# Altium schematic symbol library INFINITY.Microchip.SchLib: 15 symbols
Pins are listed as number, name and electrical type; pins without a type are passive.

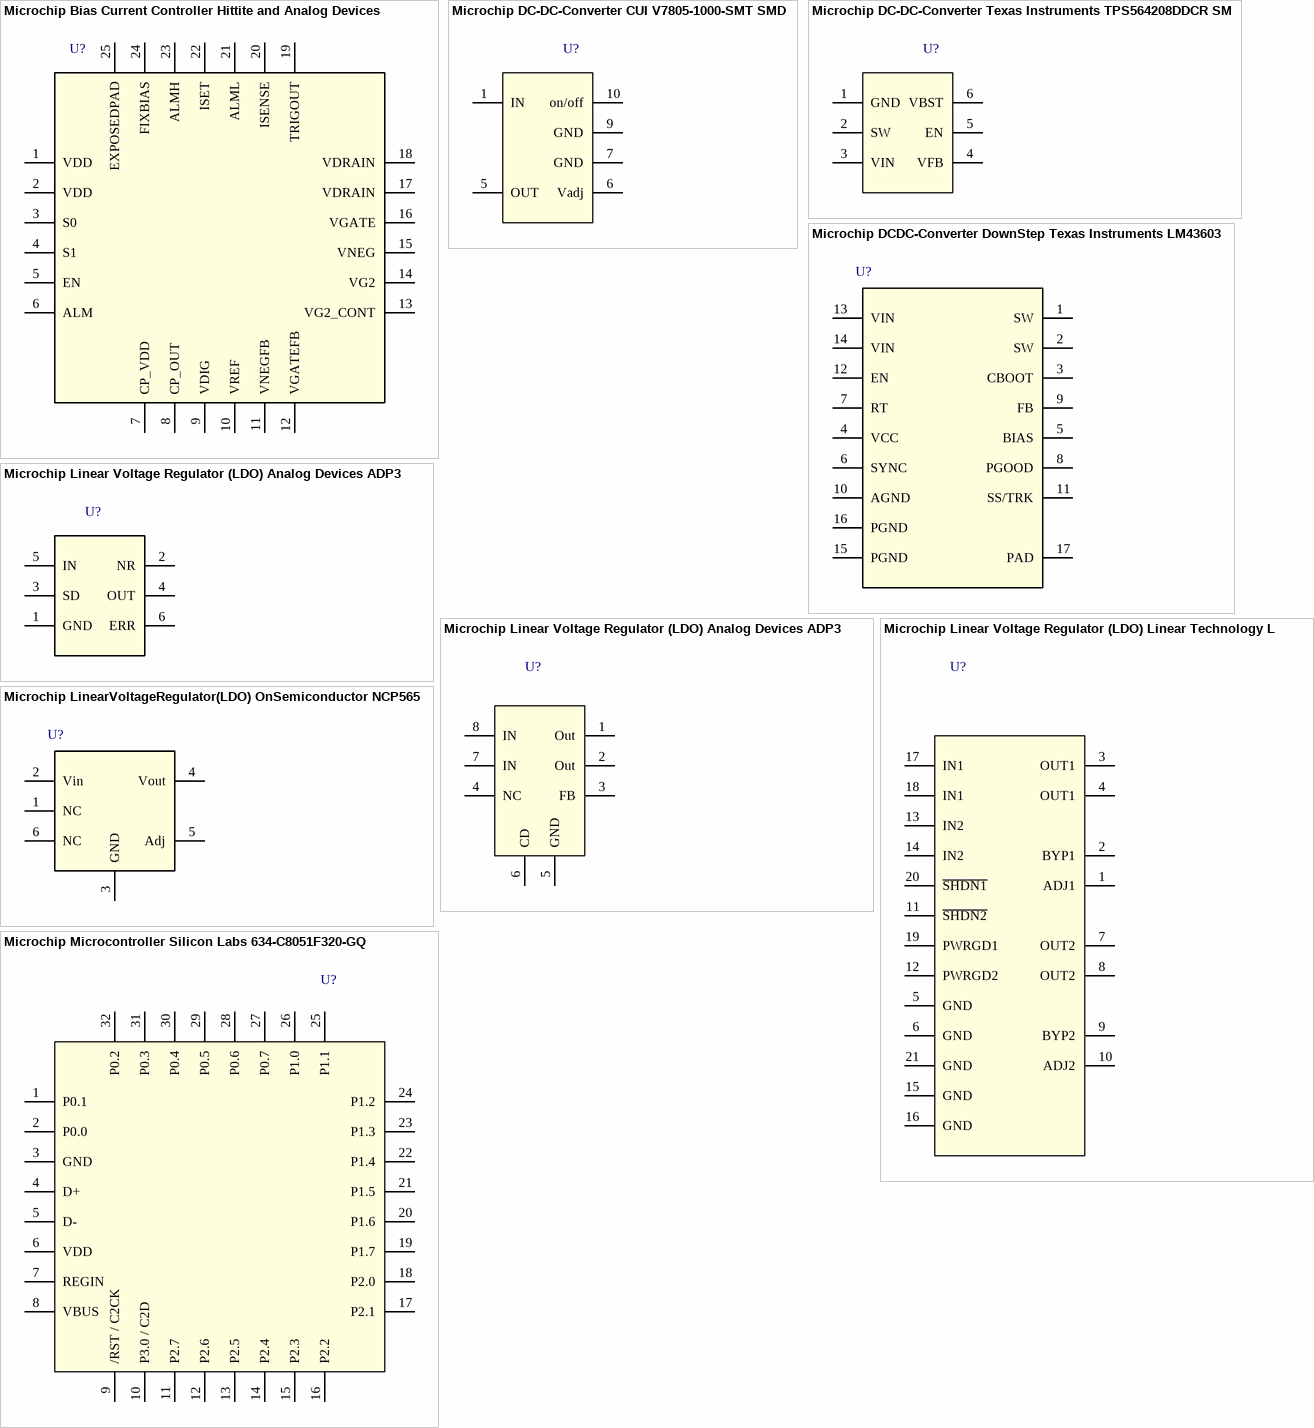
[diagram p0: symbols Microchip Bias Current Controller Hittite and Analog Devices HMC980LP4E SMT QFN-24 16.5V 1.6A to Microchip Microcontroller Silicon Labs 634-C8051F320-GQ]

## Microchip Bias Current Controller Hittite and Analog Devices HMC980LP4E SMT QFN-24 16.5V 1.6A
designator U?
pins: 1 VDD, 2 VDD, 3 S0, 4 S1, 5 EN, 6 ALM, 7 CP_VDD, 8 CP_OUT, 9 VDIG, 10 VREF, 11 VNEGFB, 12 VGATEFB, 13 VG2_CONT, 14 VG2, 15 VNEG, 16 VGATE, 17 VDRAIN, 18 VDRAIN, 19 TRIGOUT, 20 ISENSE, 21 ALML, 22 ISET, 23 ALMH, 24 FIXBIAS, 25 EXPOSEDPAD

## Microchip DC-DC-Converter CUI V7805-1000-SMT SMD
designator U?  (value not drawn)
NON-ISOLATED SWITCHING REGULATOR; Part Number Factory: V7805-1000-SMT-TR; Resume: Microchip DCDC-Converter CUI V7805-1000-SMT SMD; Output Current Range: to 1A; Pins count: 6; Row count: 2; Part Number Mouser#com: 490-V78051000-SMT-TR; Category: Microchip; Value: -; Precision: -; Temperature range: -40 +85 Celsium; Resistance: -; Inductance: -; Impedance: -; Capacitance: -; Unity: -; Frequency: -; Input Current Range: -; Power Dissipation: -; Gender: -; Dielectric material: -; Pitch: -; Datasheet link: http://www.mouser.com/ds/2/670/v78-1000-smt-1152799.pdf; Replacement: -; Series: -; Commentary: -
pins: 1 IN, 5 OUT, 6 Vadj, 7 GND, 9 GND, 10 on/off

## Microchip DC-DC-Converter Texas Instruments TPS564208DDCR SMD SOT-23-6 RJ-6 DDC 1.6x2.9mm
designator U?
Part Number Factory: V7805-1000-SMT-TR; Resume: Microchip DCDC-Converter CUI V7805-1000-SMT SMD; Output Current Range: to 1A; Pins count: 6; Row count: 2; Part Number Mouser#com: 490-V78051000-SMT-TR; Category: Microchip; Value: -; Precision: -; Temperature range: -40 +85 Celsium; Resistance: -; Inductance: -; Impedance: -; Capacitance: -; Unity: -; Frequency: -; Input Current Range: -; Power Dissipation: -; Gender: -; Dielectric material: -; Pitch: -; Datasheet link: http://www.mouser.com/ds/2/670/v78-1000-smt-1152799.pdf; Replacement: -; Series: -; Commentary: -
pins: 1 GND, 2 SW, 3 VIN, 4 VFB, 5 EN, 6 VBST

## Microchip DCDC-Converter DownStep Texas Instruments LM43603
designator U?  (value not drawn)
Imported
pins: 1 SW, 2 SW, 3 CBOOT, 4 VCC, 5 BIAS, 6 SYNC, 7 RT, 8 PGOOD, 9 FB, 10 AGND, 11 SS/TRK, 12 EN, 13 VIN, 14 VIN, 15 PGND, 16 PGND, 17 PAD

## Microchip Linear Voltage Regulator (LDO) Analog Devices ADP3300ARTZ-3.3RL7 SOT-23-6
designator U?
pins: 1 GND, 2 NR, 3 SD, 4 OUT, 5 IN, 6 ERR

## Microchip Linear Voltage Regulator (LDO) Analog Devices ADP3334ARMZ-REEL7 MSOP-8 RM-8
designator U?
-
pins: 1 Out, 2 Out, 3 FB, 4 NC, 5 GND, 6 CD, 7 IN, 8 IN

## Microchip Linear Voltage Regulator (LDO) Linear Technology LT3030 TSSOP-20
designator U?
pins: 1 ADJ1, 2 BYP1, 3 OUT1, 4 OUT1, 5 GND, 6 GND, 7 OUT2, 8 OUT2, 9 BYP2, 10 ADJ2, 11 ~{SHDN2}, 12 PWRGD2, 13 IN2, 14 IN2, 15 GND, 16 GND, 17 IN1, 18 IN1, 19 PWRGD1, 20 ~{SHDN1}, 21 GND

## Microchip LinearVoltageRegulator(LDO) OnSemiconductor NCP565 SMT
designator U?  (value not drawn)
pins: 1 NC, 2 Vin, 3 GND, 4 Vout, 5 Adj, 6 NC

## Microchip Microcontroller Silicon Labs 634-C8051F320-GQ
designator U?
pins: 1 P0.1, 2 P0.0, 3 GND, 4 D+, 5 D-, 6 VDD, 7 REGIN, 8 VBUS, 9 /RST / C2CK, 10 P3.0 / C2D, 11 P2.7, 12 P2.6, 13 P2.5, 14 P2.4, 15 P2.3, 16 P2.2, 17 P2.1, 18 P2.0, 19 P1.7, 20 P1.6, 21 P1.5, 22 P1.4, 23 P1.3, 24 P1.2, 25 P1.1, 26 P1.0, 27 P0.7, 28 P0.6, 29 P0.5, 30 P0.4, 31 P0.3, 32 P0.2

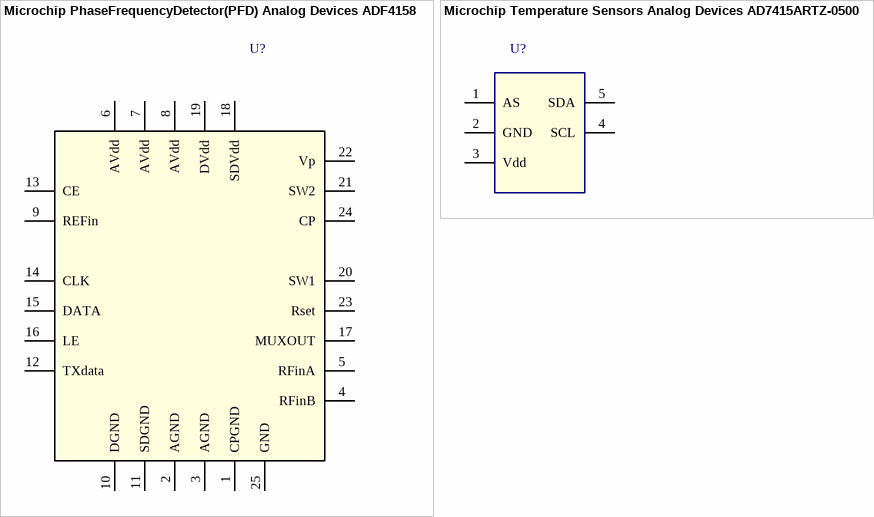
[diagram p1: symbols Microchip PhaseFrequencyDetector(PFD) Analog Devices ADF4158 LFCSP-24 CP-24-8 to Microchip Temperature Sensors Analog Devices AD7415ARTZ-0500RL7]

## Microchip PhaseFrequencyDetector(PFD) Analog Devices ADF4158 LFCSP-24 CP-24-8
designator U?
pins: 1 CPGND, 2 AGND, 3 AGND, 4 RFinB, 5 RFinA, 6 AVdd, 7 AVdd, 8 AVdd, 9 REFin, 10 DGND, 11 SDGND, 12 TXdata, 13 CE, 14 CLK, 15 DATA, 16 LE, 17 MUXOUT, 18 SDVdd, 19 DVdd, 20 SW1, 21 SW2, 22 Vp, 23 Rset, 24 CP, 25 GND

## Microchip Temperature Sensors Analog Devices AD7415ARTZ-0500RL7
designator U?
pins: 1 AS, 2 GND, 3 Vdd, 4 SCL, 5 SDA

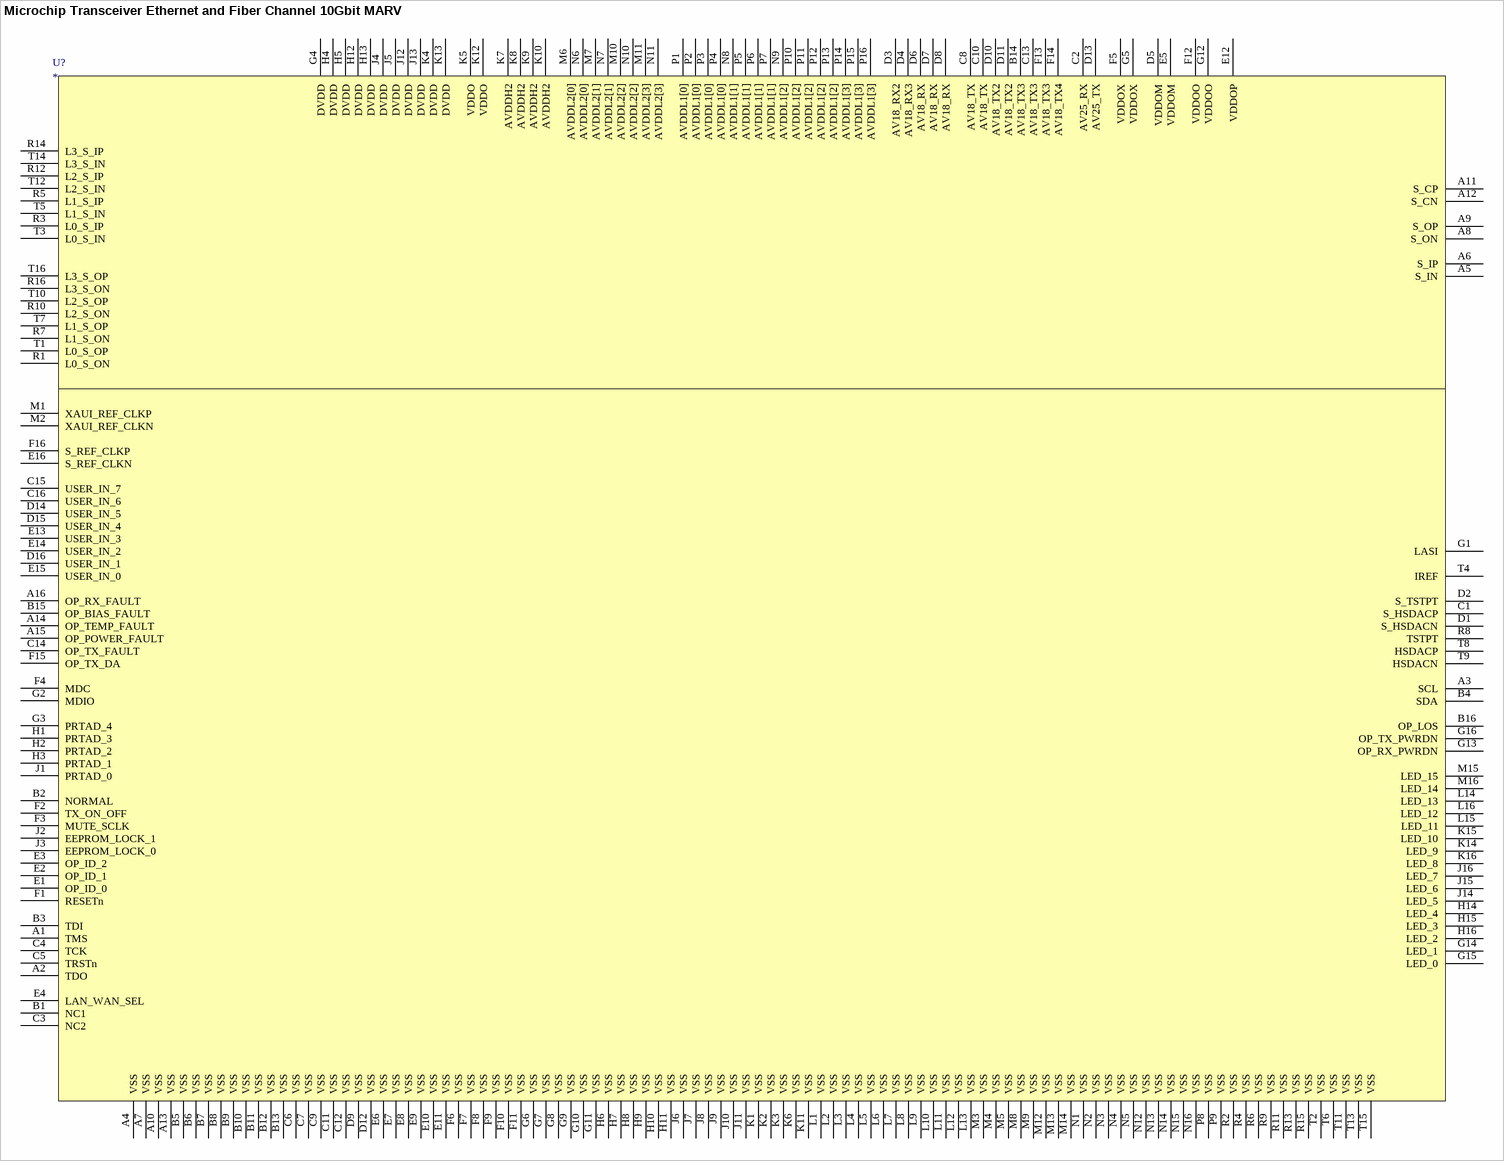
[diagram p2: symbol Microchip Transceiver Ethernet and Fiber Channel 10Gbit MARVELL 88X2011 SMT TFBGA-256]

## Microchip Transceiver Ethernet and Fiber Channel 10Gbit MARVELL 88X2011 SMT TFBGA-256
designator U?
pins: A1 TMS, A2 TDO, A3 SCL, A4 VSS, A5 S_IN, A6 S_IP, A7 VSS, A8 S_ON, A9 S_OP, A10 VSS, A11 S_CP, A12 S_CN, A13 VSS, A14 OP_TEMP_FAULT, A15 OP_POWER_FAULT, A16 OP_RX_FAULT, B1 NC1, B2 NORMAL, B3 TDI, B4 SDA, B5 VSS, B6 VSS, B7 VSS, B8 VSS, B9 VSS, B10 VSS, B11 VSS, B12 VSS, B13 VSS, B14 AV18_TX3, B15 OP_BIAS_FAULT, B16 OP_LOS, C1 S_HSDACP, C2 AV25_RX, C3 NC2, C4 TCK, C5 TRSTn, C6 VSS, C7 VSS, C8 AV18_TX, C9 VSS, C10 AV18_TX, C11 VSS, C12 VSS, C13 AV18_TX3, C14 OP_TX_FAULT, C15 USER_IN_7, C16 USER_IN_6, D1 S_HSDACN, D2 S_TSTPT, D3 AV18_RX2, D4 AV18_RX3, D5 VDDOM, D6 AV18_RX, D7 AV18_RX, D8 AV18_RX, D9 VSS, D10 AV18_TX2, D11 AV18_TX2, D12 VSS, D13 AV25_TX, D14 USER_IN_5, D15 USER_IN_4, D16 USER_IN_1, E1 OP_ID_0, E2 OP_ID_1, E3 OP_ID_2, E4 LAN_WAN_SEL, E5 VDDOM, E6 VSS, E7 VSS, E8 VSS, E9 VSS, E10 VSS, E11 VSS, E12 VDDOP, E13 USER_IN_3, E14 USER_IN_2, E15 USER_IN_0, E16 S_REF_CLKN, F1 RESETn, F2 TX_ON_OFF, F3 MUTE_SCLK, F4 MDC, F5 VDDOX, F6 VSS, F7 VSS, F8 VSS, F9 VSS, F10 VSS, F11 VSS, F12 VDDOO, F13 AV18_TX3, F14 AV18_TX4, F15 OP_TX_DA, F16 S_REF_CLKP, G1 LASI, G2 MDIO, G3 PRTAD_4, G4 DVDD, G5 VDDOX, G6 VSS, G7 VSS, G8 VSS, G9 VSS, G10 VSS, G11 VSS, G12 VDDOO, G13 OP_RX_PWRDN, G14 LED_1, G15 LED_0, G16 OP_TX_PWRDN, H1 PRTAD_3, H2 PRTAD_2, H3 PRTAD_1, H4 DVDD, H5 DVDD, H6 VSS, H7 VSS, H8 VSS, H9 VSS, H10 VSS, H11 VSS, H12 DVDD, H13 DVDD, H14 LED_4, H15 LED_3, H16 LED_2, J1 PRTAD_0, J2 EEPROM_LOCK_1, J3 EEPROM_LOCK_0, J4 DVDD, J5 DVDD, J6 VSS, J7 VSS, J8 VSS, J9 VSS, J10 VSS, J11 VSS, J12 DVDD, J13 DVDD, J14 LED_5, J15 LED_6, J16 LED_7, K1 VSS, K2 VSS, K3 VSS, K4 DVDD, K5 VDDO, K6 VSS, K7 AVDDH2, K8 AVDDH2, K9 AVDDH2, K10 AVDDH2, K11 VSS, K12 VDDO, K13 DVDD, K14 LED_9, K15 LED_10, K16 LED_8, L1 VSS, L2 VSS, L3 VSS, L4 VSS, L5 VSS, L6 VSS, L7 VSS, L8 VSS, L9 VSS, L10 VSS, L11 VSS, L12 VSS, L13 VSS, L14 LED_13, L15 LED_11, L16 LED_12, M1 XAUI_REF_CLKP, M2 XAUI_REF_CLKN, M3 VSS, M4 VSS, M5 VSS, M6 AVDDL2[0], M7 AVDDL2[1], M8 VSS, M9 VSS, M10 AVDDL2[2], M11 AVDDL2[3], M12 VSS, M13 VSS, M14 VSS, M15 LED_15, M16 LED_14, N1 VSS, N2 VSS, N3 VSS, N4 VSS, N5 VSS, N6 AVDDL2[0], N7 AVDDL2[1], N8 AVDDL1[1], N9 AVDDL1[2], N10 AVDDL2[2], N11 AVDDL2[3], N12 VSS, N13 VSS, N14 VSS, N15 VSS, N16 VSS, P1 AVDDL1[0], P2 AVDDL1[0], P3 AVDDL1[0], P4 AVDDL1[0], P5 AVDDL1[1], P6 AVDDL1[1], P7 AVDDL1[1], P8 VSS, P9 VSS, P10 AVDDL1[2], P11 AVDDL1[2], P12 AVDDL1[2], P13 AVDDL1[2], P14 AVDDL1[3], P15 AVDDL1[3], P16 AVDDL1[3], R1 L0_S_ON, R2 VSS, R3 L0_S_IP, R4 VSS, R5 L1_S_IP, R6 VSS, R7 L1_S_ON, R8 TSTPT, R9 VSS, R10 L2_S_ON, R11 VSS, R12 L2_S_IP, R13 VSS, R14 L3_S_IP, R15 VSS, R16 L3_S_ON, T1 L0_S_OP, T2 VSS, T3 L0_S_IN, T4 IREF, T5 L1_S_IN, T6 VSS, T7 L1_S_OP, T8 HSDACP, T9 HSDACN, T10 L2_S_OP, T11 VSS, T12 L2_S_IN, T13 VSS, T14 L3_S_IN, T15 VSS, T16 L3_S_OP

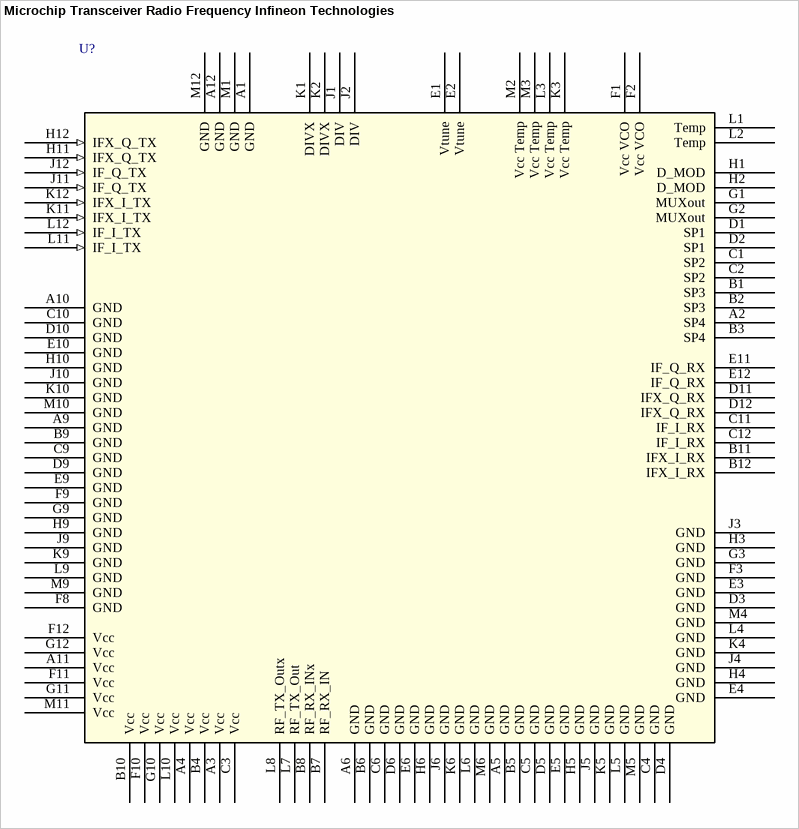
[diagram p3: symbol Microchip Transceiver Radio Frequency Infineon Technologies BGT70 PG-WFWLB-119-1 BGT70E6327XTSA1]

## Microchip Transceiver Radio Frequency Infineon Technologies BGT70 PG-WFWLB-119-1 BGT70E6327XTSA1
designator U?
pins: A1 GND, A2 SP4, A3 Vcc (power), A4 Vcc, A5 GND, A6 GND, A9 GND, A10 GND, A11 Vcc (power), A12 GND, B1 SP3, B2 SP3, B3 SP4, B4 Vcc, B5 GND, B6 GND, B7 RF_RX_IN, B8 RF_RX_INx, B9 GND, B10 Vcc (power), B11 IFX_I_RX, B12 IFX_I_RX, C1 SP2, C2 SP2, C3 Vcc (power), C4 GND, C5 GND, C6 GND, C9 GND, C10 GND, C11 IF_I_RX, C12 IF_I_RX, D1 SP1, D2 SP1, D3 GND, D4 GND, D5 GND, D6 GND, D9 GND, D10 GND, D11 IFX_Q_RX, D12 IFX_Q_RX, E1 Vtune, E2 Vtune, E3 GND, E4 GND, E5 GND, E6 GND, E9 GND, E10 GND, E11 IF_Q_RX, E12 IF_Q_RX, F1 Vcc VCO (power), F2 Vcc VCO, F3 GND, F8 GND, F9 GND, F10 Vcc (power), F11 Vcc (power), F12 Vcc (power), G1 MUXout, G2 MUXout, G3 GND (power), G9 GND, G10 Vcc (power), G11 Vcc (power), G12 Vcc (power), H1 D_MOD, H2 D_MOD, H3 GND, H4 GND, H5 GND, H6 GND, H9 GND, H10 GND, H11 IFX_Q_TX (in), H12 IFX_Q_TX (in), J1 DIV, J2 DIV, J3 GND, J4 GND, J5 GND, J6 GND, J9 GND, J10 GND, J11 IF_Q_TX (in), J12 IF_Q_TX (in), K1 DIVX, K2 DIVX, K3 Vcc Temp (power), K4 GND, K5 GND, K6 GND, K9 GND, K10 GND, K11 IFX_I_TX (in), K12 IFX_I_TX (in), L1 Temp, L2 Temp, L3 Vcc Temp (power), L4 GND, L5 GND, L6 GND, L7 RF_TX_Out, L8 RF_TX_Outx, L9 GND, L10 Vcc (power), L11 IF_I_TX (in), L12 IF_I_TX (in), M1 GND, M2 Vcc Temp (power), M3 Vcc Temp (power), M4 GND, M5 GND, M6 GND, M9 GND, M10 GND, M11 Vcc (power), M12 GND

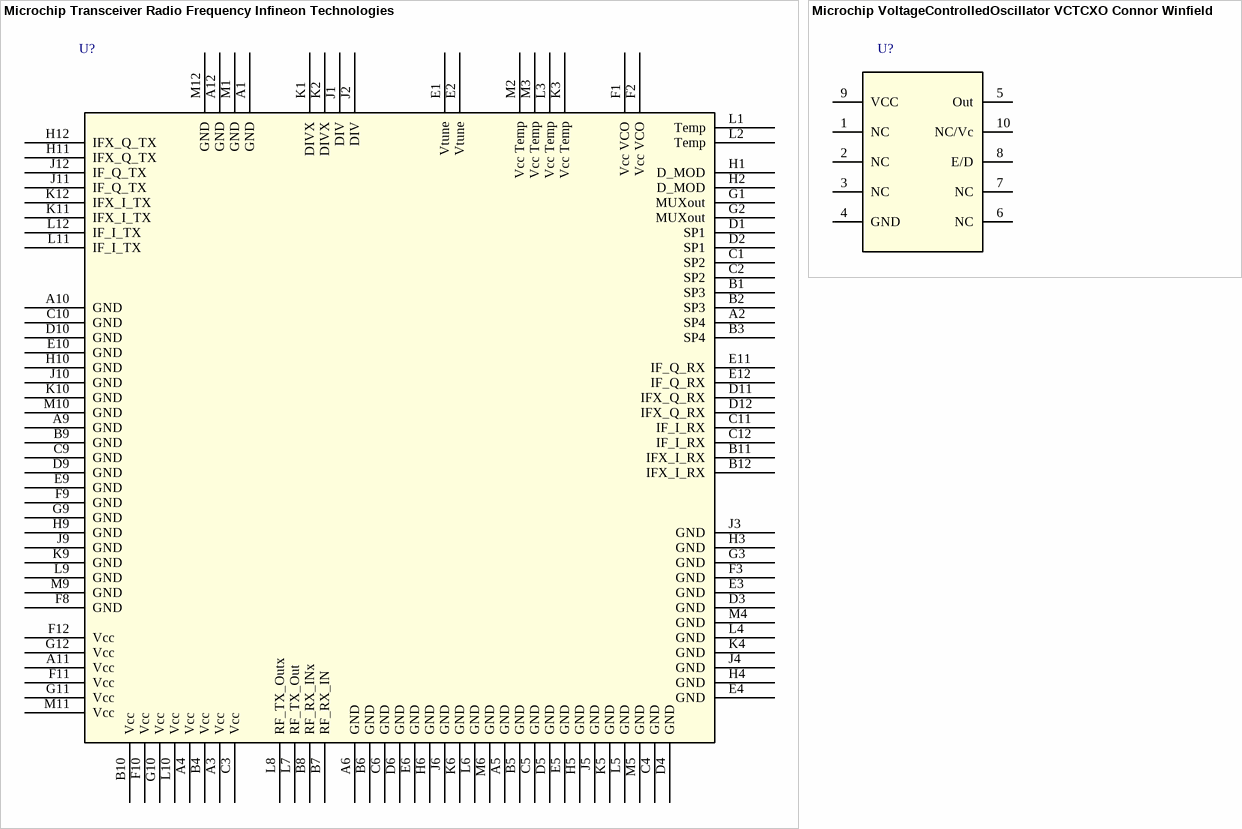
[diagram p4: symbols Microchip Transceiver Radio Frequency Infineon Technologies BGT80 PG-WFWLB-119-1 BGT80E6327XTSA1 to Microchip VoltageControlledOscillator VCTCXO Connor Winfield T604-040.0M +3.3V 40 MHz 0.28ppm SMD-10 No-Lead]

## Microchip Transceiver Radio Frequency Infineon Technologies BGT80 PG-WFWLB-119-1 BGT80E6327XTSA1
designator U?
pins: A1 GND, A2 SP4, A3 Vcc (power), A4 Vcc, A5 GND, A6 GND, A9 GND, A10 GND, A11 Vcc (power), A12 GND, B1 SP3, B2 SP3, B3 SP4, B4 Vcc, B5 GND, B6 GND, B7 RF_RX_IN, B8 RF_RX_INx, B9 GND, B10 Vcc (power), B11 IFX_I_RX, B12 IFX_I_RX, C1 SP2, C2 SP2, C3 Vcc (power), C4 GND, C5 GND, C6 GND, C9 GND, C10 GND, C11 IF_I_RX, C12 IF_I_RX, D1 SP1, D2 SP1, D3 GND, D4 GND, D5 GND, D6 GND, D9 GND, D10 GND, D11 IFX_Q_RX, D12 IFX_Q_RX, E1 Vtune, E2 Vtune, E3 GND, E4 GND, E5 GND, E6 GND, E9 GND, E10 GND, E11 IF_Q_RX, E12 IF_Q_RX, F1 Vcc VCO (power), F2 Vcc VCO, F3 GND, F8 GND, F9 GND, F10 Vcc (power), F11 Vcc (power), F12 Vcc (power), G1 MUXout, G2 MUXout, G3 GND (power), G9 GND, G10 Vcc (power), G11 Vcc (power), G12 Vcc (power), H1 D_MOD, H2 D_MOD, H3 GND, H4 GND, H5 GND, H6 GND, H9 GND, H10 GND, H11 IFX_Q_TX, H12 IFX_Q_TX, J1 DIV, J2 DIV, J3 GND, J4 GND, J5 GND, J6 GND, J9 GND, J10 GND, J11 IF_Q_TX, J12 IF_Q_TX, K1 DIVX, K2 DIVX, K3 Vcc Temp (power), K4 GND, K5 GND, K6 GND, K9 GND, K10 GND, K11 IFX_I_TX, K12 IFX_I_TX, L1 Temp, L2 Temp, L3 Vcc Temp (power), L4 GND, L5 GND, L6 GND, L7 RF_TX_Out, L8 RF_TX_Outx, L9 GND, L10 Vcc (power), L11 IF_I_TX, L12 IF_I_TX, M1 GND, M2 Vcc Temp (power), M3 Vcc Temp (power), M4 GND, M5 GND, M6 GND, M9 GND, M10 GND, M11 Vcc (power), M12 GND

## Microchip VoltageControlledOscillator VCTCXO Connor Winfield T604-040.0M +3.3V 40 MHz 0.28ppm SMD-10 No-Lead
designator U?
pins: 1 NC, 2 NC, 3 NC, 4 GND, 5 Out, 6 NC, 7 NC, 8 E/D, 9 VCC, 10 NC/Vc